# EAGLE library part W25N01GVZEIG (library ICs)
FLASH - NAND Memory IC 1Gb (128M x 8) SPI 104 MHz 8-WSON (8x6)
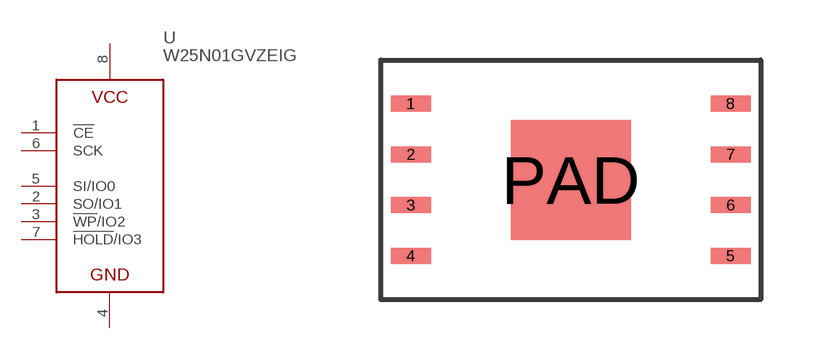
[diagram p288: symbol with the pads of WSON8_8X6; footprint WSON8_8X6]

Designator prefix U

## W25N01GVZEIG (DIGIKEY: W25N01GVZEIGCT-ND; HEIGHT: 1; PRICE_PER: 2.48; VALUE: FLASH 1Gb)  [WSON8_8X6]
1  !CE
2  SO/IO1
3  !WP!/IO2
4  GND
5  SI/IO0
6  SCK
7  !HOLD!/IO3
8  VCC

## Footprint WSON8_8X6 (pad centres in mm)
smd 1 x 0.4: 1 -4,1.905; 2 -4,0.635; 3 -4,-0.635; 4 -4,-1.905; 5 4,-1.905; 6 4,-0.635; 7 4,0.635; 8 4,1.905
smd 3 x 3: PAD 0,0